# Altium schematic symbol library AD8226ARZ.SchLib: 2 symbols
Pins are listed as number, name and electrical type; pins without a type are passive.

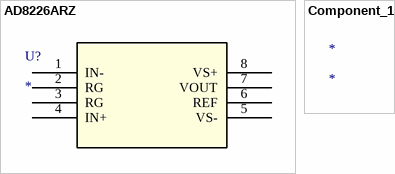
[diagram p0: symbols AD8226ARZ to Component_1]

## AD8226ARZ
designator U?
No Description Available; Mfr_Name: Analog Devices Inc; RefDes: RefDes; Type: Type
footprint R_8_ADI
pins: 1 IN-, 2 RG, 3 RG, 4 IN+, 5 VS- (power), 6 REF, 7 VOUT, 8 VS+ (power)

## Component_1
designator *